# Altium schematic symbol library TC7SZ125FU.SchLib: 1 symbol
Pins are listed as number, name and electrical type; pins without a type are passive.

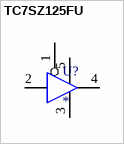
[diagram p0: symbol TC7SZ125FU]

## TC7SZ125FU
designator U?
pins: 1 ~{G}, 2 In, 3 GND (power), 4 Out (power), 5 VCC (power)